# Altium schematic symbol library Lib1.SchLib: 6 symbols
Pins are listed as number, name and electrical type; pins without a type are passive.

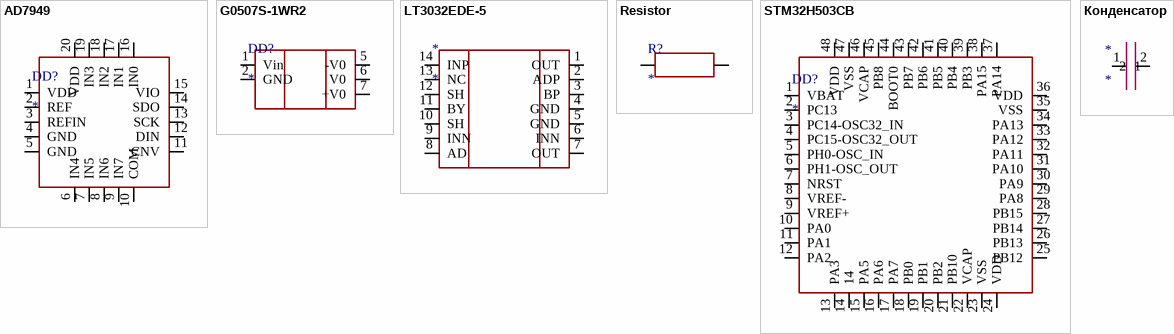
[diagram p0: symbols AD7949 to Конденсатор]

## AD7949
designator DD?
footprint QFN50P400X400X80_HS-21N (QFN, 20-Leads, Body 4,00x4,00mm, Pitch 0,50mm, Thermal Pad 2,50x2,50mm, IPC Medium Density)
pins: 1 VDD, 2 REF, 3 REFIN, 4 GND, 5 GND, 6 IN4, 7 IN5, 8 IN6, 9 IN7, 10 COM, 11 CNV, 12 DIN, 13 SCK, 14 SDO, 15 VIO, 16 IN0, 17 IN1, 18 IN2, 19 IN3, 20 VDD

## G0507S-1WR2
designator DD?
pins: 1 Vin, 2 GND, 5 -V0, 6 V0, 7 +V0

## LT3032EDE-5
designator *
pins: 1 OUT, 2 ADP, 3 BP, 4 GND, 5 GND, 6 INN, 7 OUT, 8 AD, 9 INN, 10 SH, 11 BY, 12 SH, 13 NC, 14 INP

## Resistor
designator R?
footprint R_0603
pins: 1, 2

## STM32H503CB
designator DD?
footprint CQFP50P1170X1170X160-48N (CQFP, 48-Leads, Body 11,70x11,70mm, Pitch 0,50mm, IPC Medium Density)
pins: 1 VBAT, 2 PC13, 3 PC14-OSC32_IN, 4 PC15-OSC32_OUT, 5 PH0-OSC_IN, 6 PH1-OSC_OUT, 7 NRST, 8 VREF-, 9 VREF+, 10 PA0, 11 PA1, 12 PA2, 13 PA3, 14, 15 PA5, 16 PA6, 17 PA7, 18 PB0, 19 PB1, 20 PB2, 21 PB10, 22 VCAP, 23 VSS, 24 VDD, 25 PB12, 26 PB13, 27 PB14, 28 PB15, 29 PA8, 30 PA9, 31 PA10, 32 PA11, 33 PA12, 34 PA13, 35 VSS, 36 VDD, 37 PA14, 38 PA15, 39 PB3, 40 PB4, 41 PB5, 42 PB6, 43 PB7, 44 BOOT0, 45 PB8, 46 VCAP, 47 VSS, 48 VDD

## Конденсатор
designator *
footprint CAPC0603 (Chip Capacitor, 2-Leads, Body 1,60x0,80mm, IPC Medium Density)
pins: 1, 2